# Altium footprint library PartsLib.PcbLib: 49 footprints (part 4 of 4)
Each footprint in its own frame and in the unit in brackets; x right, y up, seen from the top. Pads: shape width x height; smd on the part's side, far side on the other; paste and mask are expansions set on the pad; w line width, h text height; cw(c..) or ccw(c..) is an arc to the next point about the centre after c.
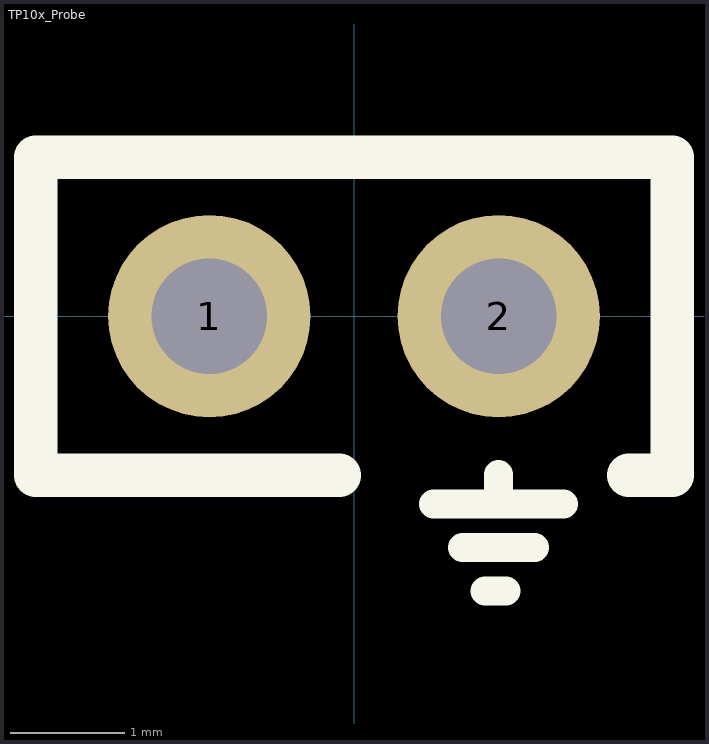
[diagram p3: the footprint, top view; thin cyan lines are the x and y axes]

## TP10x_Probe [mil] "Small Probs footprint"
pads (2):
  round 70 hole 40: 1(-50,0) 2(50,0)
Top Overlay:
  lines w10: 27.5,-65 72.5,-65 ; 37.5,-80 62.5,-80 ; 45.23,-95 52.5,-95 ; 50,-65 50,-54.73
  lines w15: -5,-55 -110,-55 -110,55 110,55 110,-55 95,-55
Mechanical 13:
  text ".Designator" at -104.28,-41.75 h25.59